# Altium schematic symbol library FSUSB74UMX.SchLib: 2 symbols
Pins are listed as number, name and electrical type; pins without a type are passive.

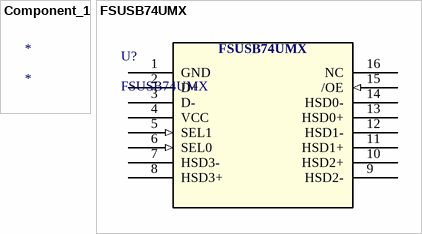
[diagram p0: symbols Component_1 to FSUSB74UMX]

## Component_1
designator *

## FSUSB74UMX
designator U?
No Description Available; Manufacturer_Name: onsemi; Copyright: Copyright (C) 2025 Ultra Librarian. All rights reserved.; Manufacturer_Part_Number: FSUSB74UMX; RefDes: RefDes; Type: Type
footprint UMLP16_1P8X2P6_ONS
pins: 1 GND (power), 2 D+, 3 D-, 4 VCC (power), 5 SEL1 (in), 6 SEL0 (in), 7 HSD3-, 8 HSD3+, 9 HSD2-, 10 HSD2+, 11 HSD1+, 12 HSD1-, 13 HSD0+, 14 HSD0-, 15 /OE (in), 16 NC